# EAGLE library part M24SR16-YMN6T/2 (library m24sr16-ymn6t_2)
None
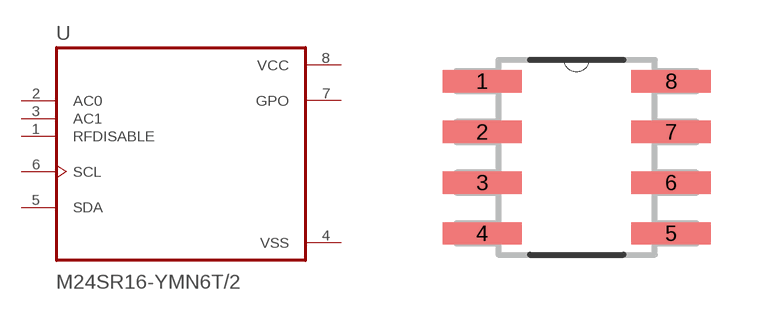
[diagram p0: symbol with the pads of SOIC127P600X175-8N; footprint SOIC127P600X175-8N]

Designator prefix U

## M24SR16-YMN6T/2 (Availability: Good; Description: NFC/RFID Tag and Transponder Chip 13553kHz to 13567kHz 16Kbit 8-Pin SO N Tape and Reel; MF: STMicroelectronics; MP: M24SR16-YMN6T/2; Package: SO-8 STMicroelectronics; Price: 0.81 USD)  [SOIC127P600X175-8N]
1  RFDISABLE  in
2  AC0  in
3  AC1  in
4  VSS  pwr
5  SDA
6  SCL  in
7  GPO  out
8  VCC  pwr

## Footprint SOIC127P600X175-8N (pad centres in mm)
smd 1.981 x 0.559: 1 -2.362,1.905; 2 -2.362,0.635; 3 -2.362,-0.635; 4 -2.362,-1.905; 5 2.362,-1.905; 6 2.362,-0.635; 7 2.362,0.635; 8 2.362,1.905